# EAGLE library part ST-LINK (library micro-stm)
Created by Aleks
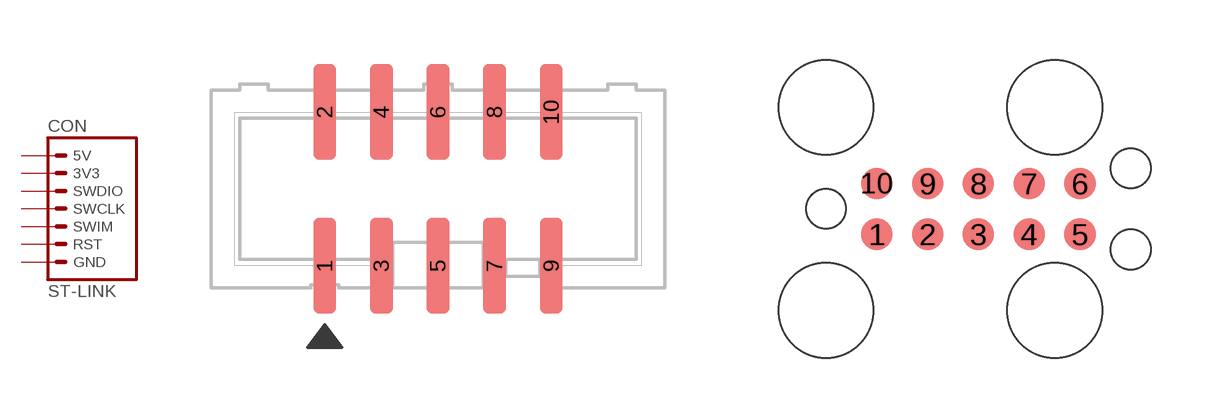
[diagram p175: symbol with the pads of T821M110A1S100CEUB; footprints T821M110A1S100CEUB, TC2050-IDC]

Designator prefix CON

## ST-LINK  [T821M110A1S100CEUB]
1  RST  in
2  SWDIO
3  GND  pwr
4  GND  pwr
5  SWIM
6  SWCLK
7  3V3  pwr
8  3V3  pwr
9  5V  pwr
10  5V  pwr

## ST-LINKTAG  [TC2050-IDC]
Pads as for T821M110A1S100CEUB

## ST-LINK10  [ML10]
Pads as for T821M110A1S100CEUB

## ST-LINK10L  [ML10L]
Pads as for T821M110A1S100CEUB

## Footprint T821M110A1S100CEUB (pad centres in mm)
Amphenol T821M110A1S100CEUB Added by Aleks
smd 1.02 x 4.3: 1 -5.08,-3.45; 2 -5.08,3.45; 3 -2.54,-3.45; 4 -2.54,3.45; 5 0,-3.45; 6 0,3.45; 7 2.54,-3.45; 8 2.54,3.45; 9 5.08,-3.45; 10 5.08,3.45

## Footprint TC2050-IDC (pad centres in mm)
Datasheet <https://www.tag-connect.com/wp-content/uploads/bsk-pdf-manager/TC2050-IDC_Datasheet_7.pdf>
smd 0.787 x 0.787: 1 1.27,-0.635; 2 2.54,-0.635; 3 3.81,-0.635; 4 5.08,-0.635; 5 6.35,-0.635; 6 6.35,0.635; 7 5.08,0.635; 8 3.81,0.635; 9 2.54,0.635; 10 1.27,0.635
hole 2.375 at 0,2.54
hole 2.375 at 0,-2.54
hole 2.375 at 5.715,2.54
hole 2.375 at 5.715,-2.54
hole 0.991 at 0,0
hole 0.991 at 7.62,1.015
hole 0.991 at 7.62,-1.015

## Footprint ML10 (pad centres in mm)
HARTING
drill 0.914 octagon: 1 -5.08,-1.27; 2 -5.08,1.27; 3 -2.54,-1.27; 4 -2.54,1.27; 5 0,-1.27; 6 0,1.27; 7 2.54,-1.27; 8 2.54,1.27; 9 5.08,-1.27; 10 5.08,1.27

## Footprint ML10L (pad centres in mm)
HARTING
drill 0.914 octagon: 1 -5.08,-1.27; 2 -5.08,1.27; 3 -2.54,-1.27; 4 -2.54,1.27; 5 0,-1.27; 6 0,1.27; 7 2.54,-1.27; 8 2.54,1.27; 9 5.08,-1.27; 10 5.08,1.27